# Altium schematic symbol library Power_Management_ICs.SchLib: 51 symbols
Pins are listed as number, name and electrical type; pins without a type are passive.

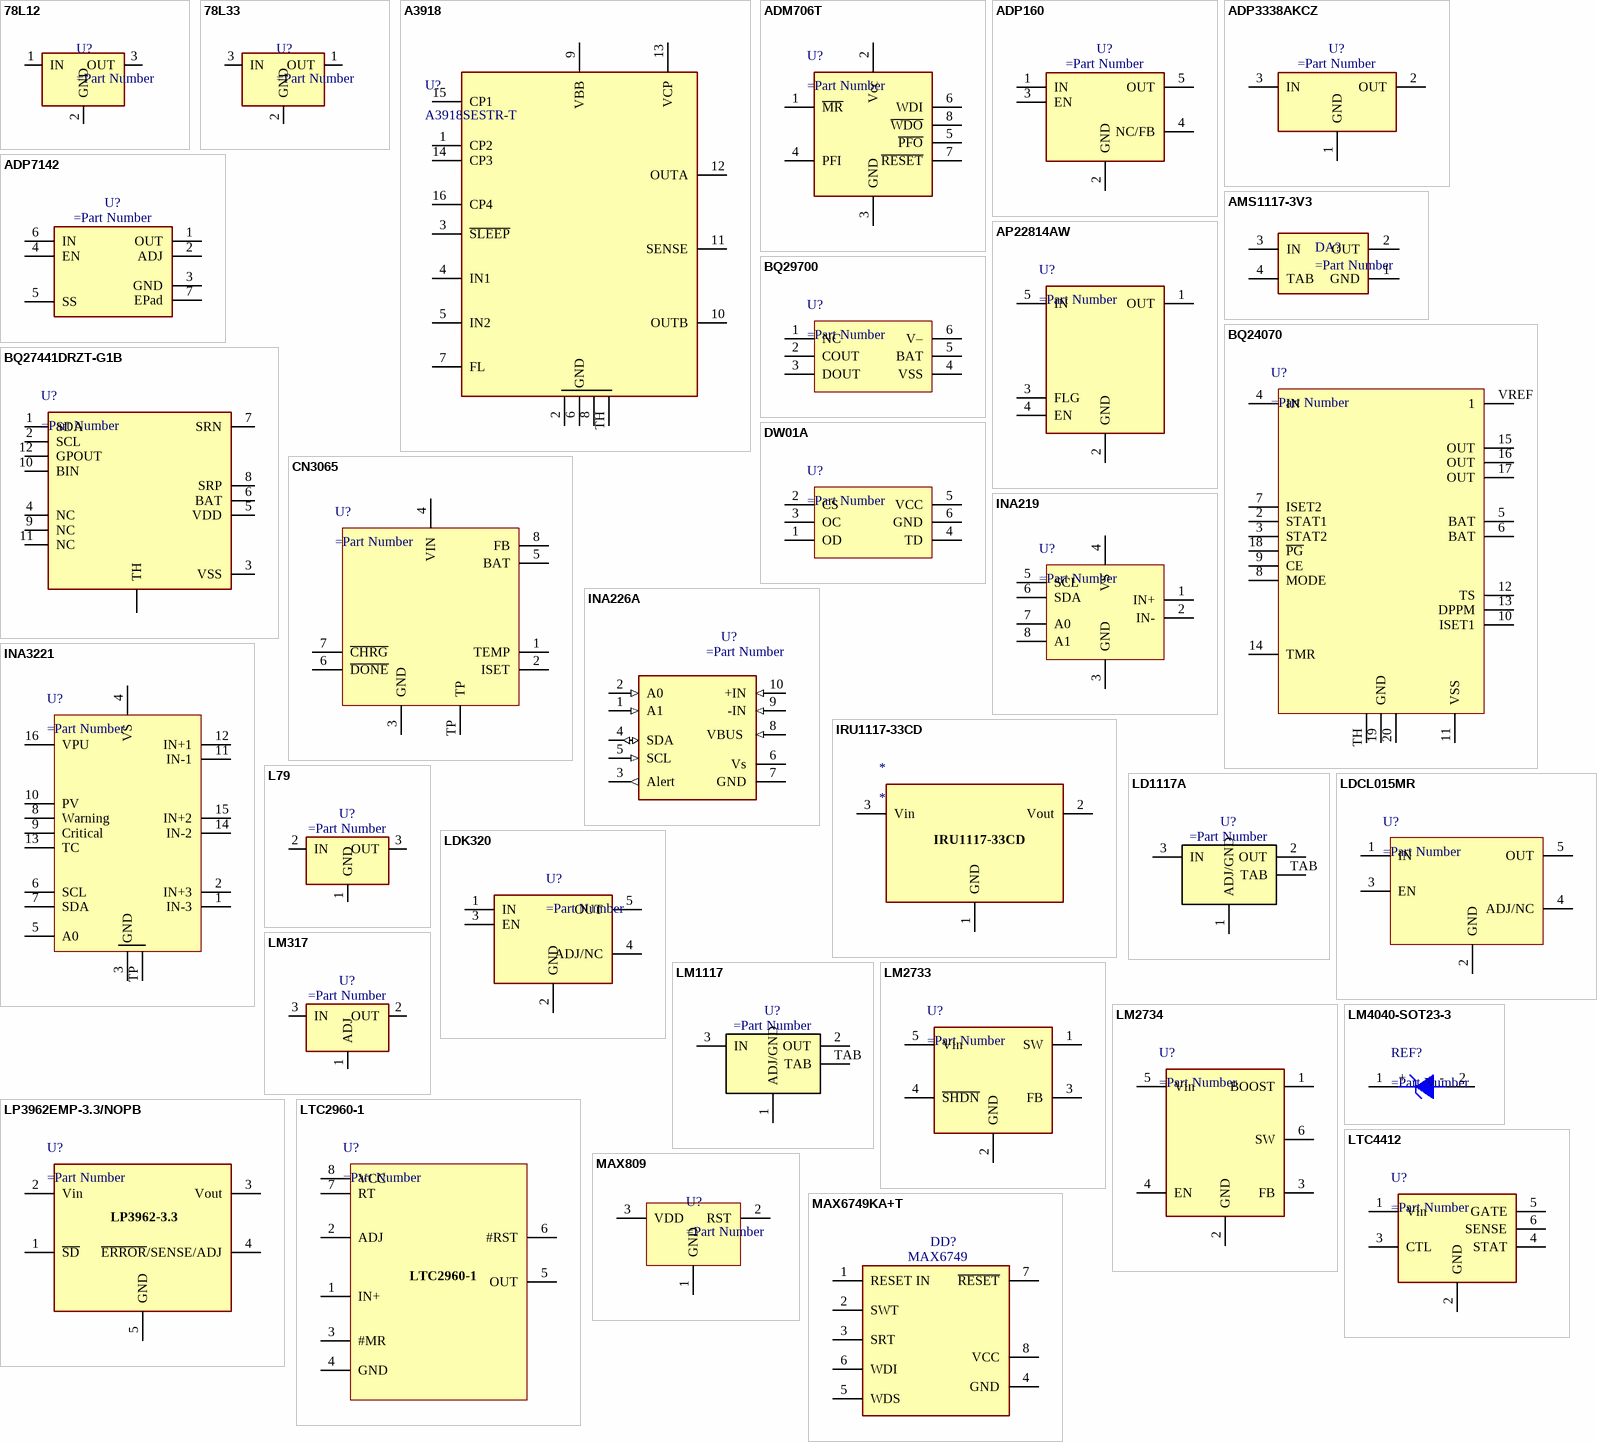
[diagram p0: symbols 78L12 to MAX6749KA+T]

## 78L12
designator U?
pins: 1 IN, 2 GND, 3 OUT

## 78L33
designator U?
pins: 1 OUT, 2 GND, 3 IN

## A3918
designator U?, comment A3918SESTR-T
pins: 1 CP2, 2 GND, 3 ~{SLEEP}, 4 IN1, 5 IN2, 6 GND, 7 FL, 8 GND, 9 VBB, 10 OUTB, 11 SENSE, 12 OUTA, 13 VCP, 14 CP3, 15 CP1, 16 CP4, TH GND

## ADM706T
designator U?
pins: 1 ~{MR}, 2 Vcc, 3 GND, 4 PFI, 5 ~{PFO}, 6 WDI, 7 ~{RESET}, 8 ~{WDO}

## ADP160
designator U?
pins: 1 IN, 2 GND, 3 EN, 4 NC/FB, 5 OUT

## ADP3338AKCZ
designator U?
Manufacturer: Analog Devices Inc.; Manufacturer Part Number: ADP7142ACPZN5.0-R7; ComponentLink1Description: Compel; ComponentLink1URL: https://www.compel.ru/infosheet/AD/ADP1621ARMZ; Supplier 1: Digi-Key; Supplier Part Number 1: ADP7142ACPZN5.0-R7CT-ND
pins: 1 GND, 2 OUT, 3 IN

## ADP7142
designator U?
IC REG LINEAR 5V 200MA 6LFCSP; Manufacturer: Analog Devices Inc.; Manufacturer Part Number: ADP7142ACPZN5.0-R7; ComponentLink1Description: Compel; ComponentLink1URL: https://www.compel.ru/infosheet/AD/ADP1621ARMZ; Supplier 1: Digi-Key; Supplier Part Number 1: ADP7142ACPZN5.0-R7CT-ND
pins: 1 OUT, 2 ADJ, 3 GND, 4 EN, 5 SS, 6 IN, 7 EPad

## AMS1117-3V3
designator DA?
pins: 1 GND (power), 2 OUT (power), 3 IN (power), 4 TAB (power)

## AP22814AW
designator U?
pins: 1 OUT, 2 GND, 3 FLG, 4 EN, 5 IN

## BQ24070
designator U?
pins: 2 STAT1, 3 STAT2, 4 IN, 5 BAT, 6 BAT, 7 ISET2, 8 MODE, 9 CE, 10 ISET1, 11 VSS, 12 TS, 13 DPPM, 14 TMR, 15 OUT, 16 OUT, 17 OUT, 18 ~{PG}, 19 GND, 20 GND, TH, VREF 1

## BQ27441DRZT-G1B
designator U?
pins: 1 SDA, 2 SCL, 3 VSS, 4 NC, 5 VDD, 6 BAT, 7 SRN, 8 SRP, 9 NC, 10 BIN, 11 NC, 12 GPOUT, TH

## BQ29700
designator U?
pins: 1 NC, 2 COUT, 3 DOUT, 4 VSS, 5 BAT, 6 V–

## CN3065
designator U?
pins: 1 TEMP, 2 ISET, 3 GND, 4 VIN, 5 BAT, 6 ~{DONE}, 7 ~{CHRG}, 8 FB, TP

## DW01A
designator U?
pins: 1 OD, 2 CS, 3 OC, 4 TD, 5 VCC, 6 GND

## INA219
designator U?
pins: 1 IN+, 2 IN-, 3 GND, 4 VS, 5 SCL, 6 SDA, 7 A0, 8 A1

## INA226A
designator U?
IC MONITOR PWR/CURR BIDIR 10MSOP; Manufacturer: Texas Instruments; Manufacturer Part Number: INA226AIDGST; Supplier 1: Digi-Key; Supplier Part Number 1: 296-29100-1-ND
footprint VSSOP-10
pins: 1 A1 (in), 2 A0 (in), 3 Alert  (out), 4 SDA (io), 5 SCL  (in), 6 Vs (power), 7 GND (power), 8 VBUS  (in), 9 -IN (in), 10 +IN (in)

## INA3221
designator U?
pins: 1 IN-3, 2 IN+3, 3 GND, 4 VS, 5 A0, 6 SCL, 7 SDA, 8 Warning, 9 Critical, 10 PV, 11 IN-1, 12 IN+1, 13 TC, 14 IN-2, 15 IN+2, 16 VPU, TP

## IRU1117-33CD
designator *
pins: 1 GND, 2 Vout, 3 Vin

## L79
designator U?
pins: 1 GND, 2 IN, 3 OUT

## LD1117A
designator U?
pins: 1 ADJ/GND, 2 OUT, 3 IN, TAB

## LDCL015MR
designator U?
pins: 1 IN, 2 GND, 3 EN, 4 ADJ/NC, 5 OUT

## LDK320
designator U?
pins: 1 IN, 2 GND, 3 EN, 4 ADJ/NC, 5 OUT

## LM317
designator U?
pins: 1 ADJ, 2 OUT, 3 IN

## LM1117
designator U?
pins: 1 ADJ/GND, 2 OUT, 3 IN, TAB

## LM2733
designator U?
pins: 1 SW, 2 GND, 3 FB, 4 ~{SHDN}, 5 Vin

## LM2734
designator U?
pins: 1 BOOST, 2 GND, 3 FB, 4 EN, 5 Vin, 6 SW

## LM4040-SOT23-3
designator REF?
pins: 1 +, 2 -

## LP3962EMP-3.3/NOPB
designator U?
pins: 1 ~{SD}, 2 Vin, 3 Vout, 4 ~{ERROR}/SENSE/ADJ, 5 GND
text: LP3962-3.3

## LTC2960-1
designator U?
pins: 1 IN+, 2 ADJ, 3 #MR, 4 GND, 5 OUT, 6 #RST, 7 RT, 8 VCC

## LTC4412
designator U?
pins: 1 Vin, 2 GND, 3 CTL, 4 STAT, 5 GATE, 6 SENSE

## MAX809
designator U?
pins: 1 GND, 2 RST, 3 VDD

## MAX6749KA+T
designator DD?, comment MAX6749
Supervisor Open Drain or Open Collector 1 Channel SOT-23-8
pins: 1 RESET IN, 2 SWT, 3 SRT, 4 GND (power), 5 WDS, 6 WDI, 7 ~{RESET} (oc), 8 VCC (power)

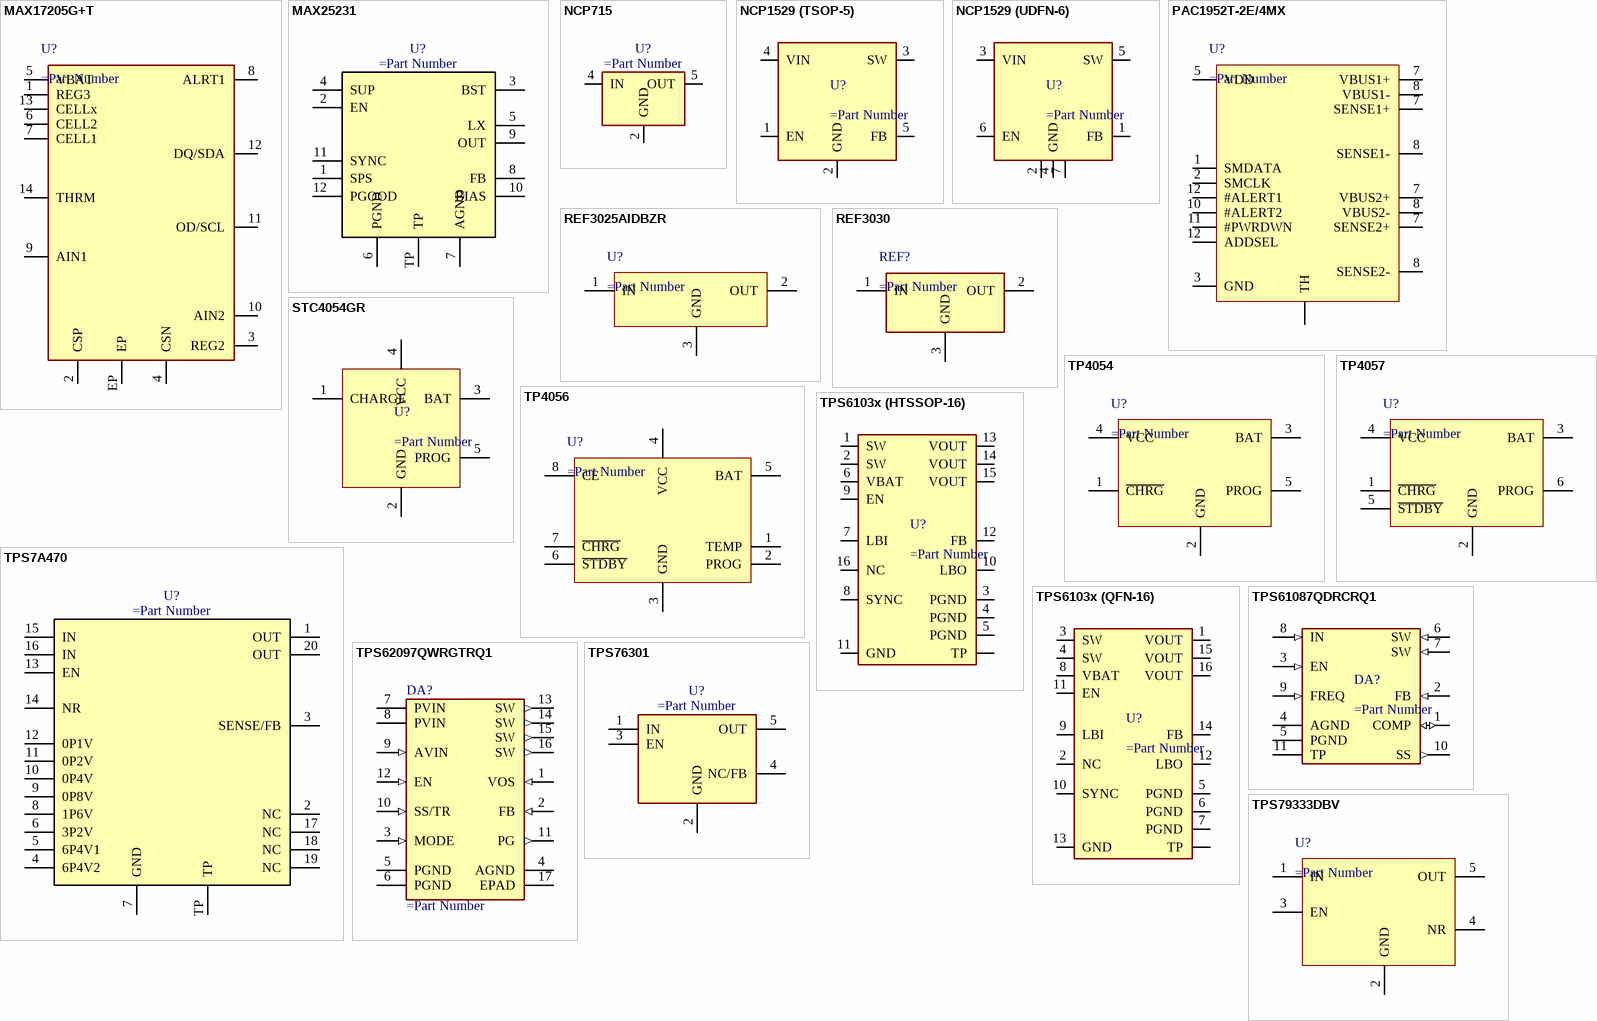
[diagram p1: symbols MAX17205G+T to TPS79333DBV]

## MAX17205G+T
designator U?
pins: 1 REG3, 2 CSP, 3 REG2, 4 CSN, 5 VBAT, 6 CELL2, 7 CELL1, 8 ALRT1, 9 AIN1, 10 AIN2, 11 OD/SCL, 12 DQ/SDA, 13 CELLx, 14 THRM, EP

## MAX25231
designator U?
pins: 1 SPS, 2 EN, 3 BST, 4 SUP, 5 LX, 6 PGND, 7 AGND, 8 FB, 9 OUT, 10 BIAS, 11 SYNC, 12 PGOOD, TP

## NCP715
designator U?
pins: 2 GND, 4 IN, 5 OUT

## NCP1529 (TSOP-5)
designator U?
pins: 1 EN, 2 GND, 3 SW, 4 VIN, 5 FB

## NCP1529 (UDFN-6)
designator U?
pins: 1 FB, 2    GND, 3 VIN, 4 GND, 5 SW, 6 EN, 7 GND

## PAC1952T-2E/4MX
designator U?
pins: 1 SMDATA, 2 SMCLK, 3 GND, 5 VDD, 7 VBUS1+, 7 VBUS2+, 7 SENSE1+, 7 SENSE2+, 8 VBUS1-, 8 VBUS2-, 8 SENSE1-, 8 SENSE2-, 10 #ALERT2, 11 #PWRDWN, 12 #ALERT1, 12 ADDSEL, TH

## REF3025AIDBZR
designator U?
pins: 1 IN, 2 OUT, 3 GND

## REF3030
designator REF?
pins: 1 IN, 2 OUT, 3 GND

## STC4054GR
designator U?
pins: 1 CHARGE, 2 GND, 3 BAT, 4 VCC, 5 PROG

## TP4054
designator U?
pins: 1 ~{CHRG}, 2 GND, 3 BAT, 4 VCC, 5 PROG

## TP4056
designator U?
pins: 1 TEMP, 2 PROG, 3 GND, 4 VCC, 5 BAT, 6 ~{STDBY}, 7 ~{CHRG}, 8 CE

## TP4057
designator U?
pins: 1 ~{CHRG}, 2 GND, 3 BAT, 4 VCC, 5 ~{STDBY}, 6 PROG

## TPS7A470
designator U?
pins: 1 OUT, 2 NC, 3 SENSE/FB, 4 6P4V2, 5 6P4V1, 6 3P2V, 7 GND, 8 1P6V, 9 0P8V, 10 0P4V, 11 0P2V, 12 0P1V, 13 EN, 14 NR, 15 IN, 16 IN, 17 NC, 18 NC, 19 NC, 20 OUT, TP

## TPS6103x (HTSSOP-16)
designator U?
pins: 1 SW, 2 SW, 3 PGND, 4 PGND, 5 PGND, 6 VBAT, 7 LBI, 8 SYNC, 9 EN, 10 LBO, 11 GND, 12 FB, 13 VOUT, 14 VOUT, 15 VOUT, 16 NC, TP

## TPS6103x (QFN-16)
designator U?
pins: 1 VOUT, 2 NC, 3 SW, 4 SW, 5 PGND, 6 PGND, 7 PGND, 8 VBAT, 9 LBI, 10 SYNC, 11 EN, 12 LBO, 13 GND, 14 FB, 15 VOUT, 16 VOUT, TP

## TPS61087QDRCRQ1
designator DA?
pins: 1 COMP (io), 2 FB (in), 3 EN (in), 4 AGND (power), 5 PGND (power), 6 SW (in), 7 SW (in), 8 IN (in), 9 FREQ (in), 10 SS (out), 11 TP (power)

## TPS62097QWRGTRQ1
designator DA?
pins: 1 VOS (in), 2 FB (in), 3 MODE (in), 4 AGND (power), 5 PGND (power), 6 PGND (power), 7 PVIN (power), 8 PVIN (power), 9 AVIN (in), 10 SS/TR (in), 11 PG (out), 12 EN (in), 13 SW (out), 14 SW (out), 15 SW (out), 16 SW (out), 17 EPAD (power)

## TPS76301
designator U?
pins: 1 IN, 2 GND, 3 EN, 4 NC/FB, 5 OUT

## TPS79333DBV
designator U?
pins: 1 IN, 2 GND, 3 EN, 4 NR, 5 OUT